# Altium footprint library TerminalBlock_4Ucon.PcbLib: 28 footprints (part 2 of 2)
Each footprint in its own frame and in the unit in brackets; x right, y up, seen from the top. Pads: shape width x height; smd on the part's side, far side on the other; paste and mask are expansions set on the pad; w line width, h text height; cw(c..) or ccw(c..) is an arc to the next point about the centre after c.
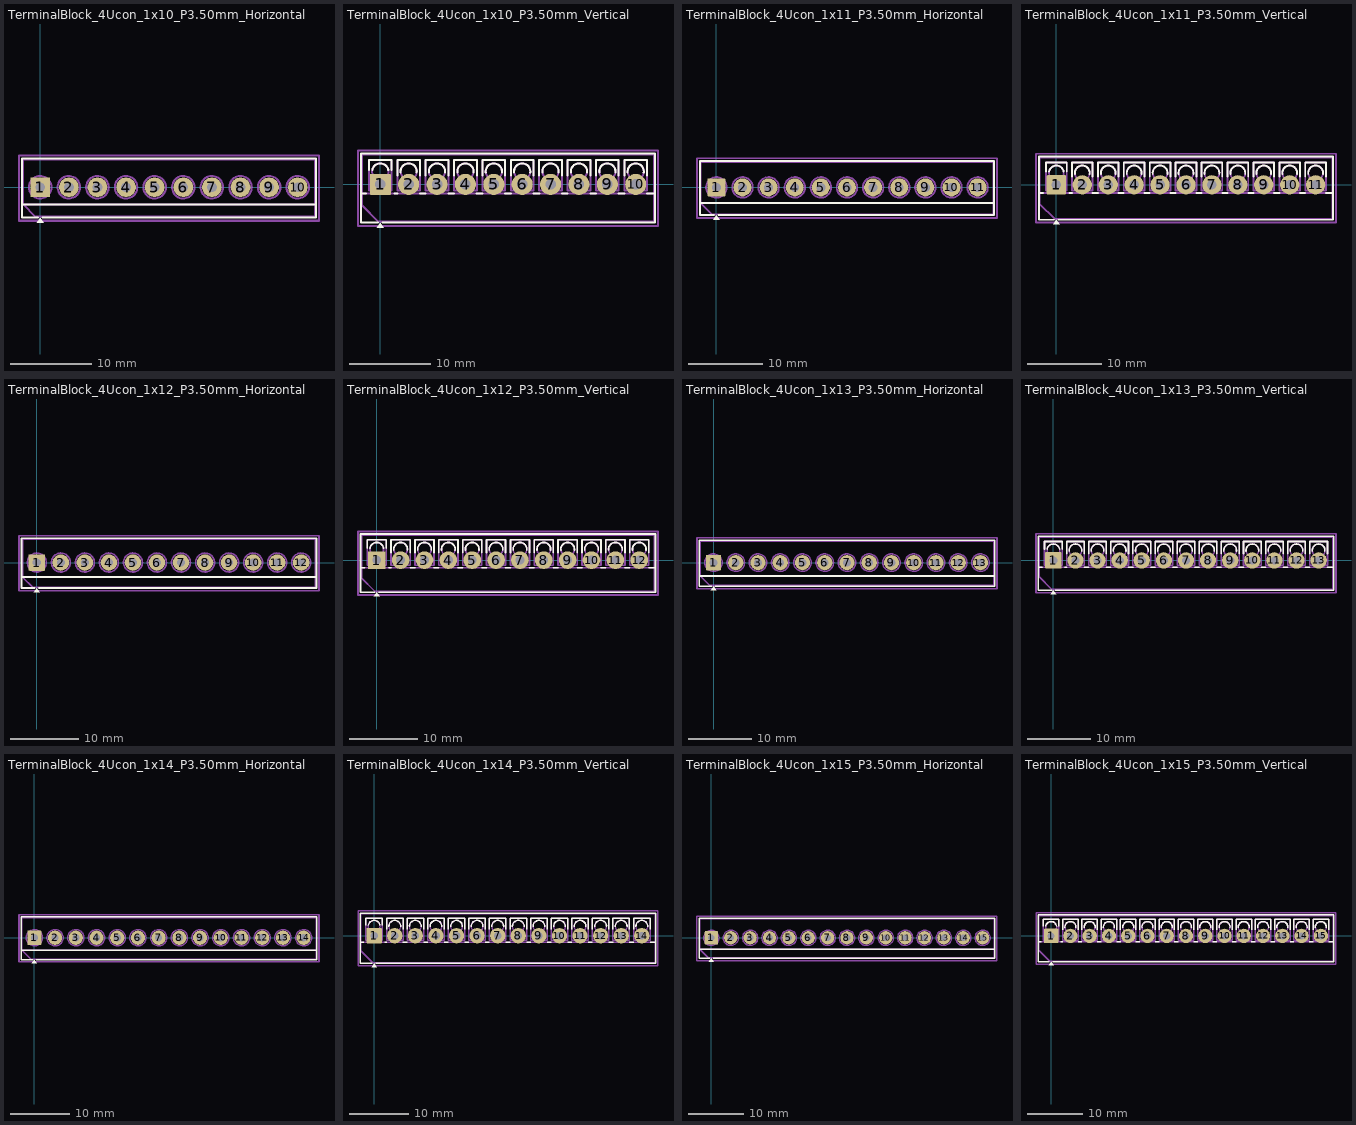
[diagram p1: the footprints below, top view; thin cyan lines are the x and y axes]

## TerminalBlock_4Ucon_1x10_P3.50mm_Horizontal [mm]
pads (10):
  rrect10% 2.4x2.4 hole 1.2: 1(0,0)
  round 2.4 hole 1.2: 2(3.5,0) 3(7,0) 4(10.5,0) 5(14,0) 6(17.5,0) 7(21,0) 8(24.5,0) 9(28,0) 10(31.5,0)
F.SilkS:
  region: 0.44,-4.33 -0.44,-4.33 0,-3.72
  lines w0.254: -2.22,-2.1 33.72,-2.1 ; -0.3,-3.72 -2.22,-3.72 -2.22,3.52 33.72,3.52 33.72,-3.72 0.3,-3.72
F.Fab:
  circle w0.254: c0,0 r1.375
  circle w0.254: c3.5,0 r1.375
  circle w0.254: c7,0 r1.375
  circle w0.254: c10.5,0 r1.375
  circle w0.254: c14,0 r1.375
  circle w0.254: c17.5,0 r1.375
  circle w0.254: c21,0 r1.375
  circle w0.254: c24.5,0 r1.375
  circle w0.254: c28,0 r1.375
  circle w0.254: c31.5,0 r1.375
  lines w0.254: -1.031,0 1.031,0 ; 0,-1.031 0,1.031 ; 2.469,0 4.531,0 ; 3.5,-1.031 3.5,1.031 ; 5.969,0 8.031,0 ; 7,-1.031 7,1.031 ; 9.469,0 11.531,0 ; 10.5,-1.031 10.5,1.031 ; 12.969,0 15.031,0 ; 14,-1.031 14,1.031 ; 16.469,0 18.531,0 ; 17.5,-1.031 17.5,1.031 ; 19.969,0 22.031,0 ; 21,-1.031 21,1.031 ; 23.469,0 25.531,0 ; 24.5,-1.031 24.5,1.031 ; 26.969,0 29.031,0 ; 28,-1.031 28,1.031 ; 30.469,0 32.531,0 ; 31.5,-1.031 31.5,1.031 ; 33.6,-2.1 -2.1,-2.1 ; -2.1,-2.1 -2.1,3.4 33.6,3.4 33.6,-3.6 -0.6,-3.6 -2.1,-2.1
  text "'.Designator'" at 11.703,-3.74 h1
F.CrtYd:
  lines w0.254: -2.6,-4.1 -2.6,3.9 34.1,3.9 34.1,-4.1 -2.6,-4.1

## TerminalBlock_4Ucon_1x10_P3.50mm_Vertical [mm]
pads (10):
  rrect10% 2.6x2.6 hole 1.3: 1(0,0)
  round 2.6 hole 1.3: 2(3.5,0) 3(7,0) 4(10.5,0) 5(14,0) 6(17.5,0) 7(21,0) 8(24.5,0) 9(28,0) 10(31.5,0)
F.SilkS:
  region: 0.44,-5.33 -0.44,-5.33 0,-4.72
  lines w0.254: -2.37,-1.1 -1.78,-1.1 ; -1.4,1.78 -1.4,3 1.4,3 1.4,1.78 ; -0.984,1.78 cw(c0,1.6) 0.984,1.78 ; -0.3,-4.72 -2.37,-4.72 -2.37,3.82 33.87,3.82 33.87,-4.72 0.3,-4.72 ; 1.78,-1.1 2.101,-1.1 ; 2.1,1.099 2.1,3 4.9,3 4.9,1.099 ; 2.508,1.478 cw(c3.5,1.6) 4.492,1.478 ; 4.899,-1.1 5.601,-1.1 ; 5.6,1.099 5.6,3 8.4,3 8.4,1.099 ; 6.008,1.478 cw(c7,1.6) 7.992,1.478 ; 8.399,-1.1 9.101,-1.1 ; 9.1,1.099 9.1,3 11.9,3 11.9,1.099 ; 9.508,1.478 cw(c10.5,1.6) 11.492,1.478 ; 11.899,-1.1 12.601,-1.1 ; 12.6,1.099 12.6,3 15.4,3 15.4,1.099 ; 13.008,1.478 cw(c14,1.6) 14.992,1.478 ; 15.399,-1.1 16.101,-1.1 ; 16.1,1.099 16.1,3 18.9,3 18.9,1.099 ; 16.508,1.478 cw(c17.5,1.6) 18.492,1.478 ; 18.899,-1.1 19.601,-1.1 ; 19.6,1.099 19.6,3 22.4,3 22.4,1.099 ; 20.008,1.478 cw(c21,1.6) 21.992,1.478 ; 22.399,-1.1 23.101,-1.1 ; 23.1,1.099 23.1,3 25.9,3 25.9,1.099 ; 23.508,1.478 cw(c24.5,1.6) 25.492,1.478 ; 25.899,-1.1 26.601,-1.1 ; 26.6,1.099 26.6,3 29.4,3 29.4,1.099 ; 27.008,1.478 cw(c28,1.6) 28.992,1.478 ; 29.399,-1.1 30.101,-1.1 ; 30.1,1.099 30.1,3 32.9,3 32.9,1.099 ; 30.508,1.478 cw(c31.5,1.6) 32.492,1.478 ; 32.899,-1.1 33.87,-1.1
F.Fab:
  circle w0.254: c0,1.6 r1
  circle w0.254: c3.5,1.6 r1
  circle w0.254: c7,1.6 r1
  circle w0.254: c10.5,1.6 r1
  circle w0.254: c14,1.6 r1
  circle w0.254: c17.5,1.6 r1
  circle w0.254: c21,1.6 r1
  circle w0.254: c24.5,1.6 r1
  circle w0.254: c28,1.6 r1
  circle w0.254: c31.5,1.6 r1
  lines w0.254: -2.25,-1.1 33.75,-1.1 ; -2.25,-2.6 -2.25,3.7 33.75,3.7 33.75,-4.6 -0.25,-4.6 -2.25,-2.6 ; -1.4,-0.75 -1.4,3 1.4,3 1.4,-0.75 -1.4,-0.75 ; 2.1,-0.75 2.1,3 4.9,3 4.9,-0.75 2.1,-0.75 ; 5.6,-0.75 5.6,3 8.4,3 8.4,-0.75 5.6,-0.75 ; 9.1,-0.75 9.1,3 11.9,3 11.9,-0.75 9.1,-0.75 ; 12.6,-0.75 12.6,3 15.4,3 15.4,-0.75 12.6,-0.75 ; 16.101,-0.75 16.101,3 18.9,3 18.9,-0.75 16.101,-0.75 ; 19.6,-0.75 19.6,3 22.4,3 22.4,-0.75 19.6,-0.75 ; 23.1,-0.75 23.1,3 25.9,3 25.9,-0.75 23.1,-0.75 ; 26.6,-0.75 26.6,3 29.4,3 29.4,-0.75 26.6,-0.75 ; 30.1,-0.75 30.1,3 32.9,3 32.9,-0.75 30.1,-0.75
  text "'.Designator'" at 11.703,-4.29 h1
F.CrtYd:
  lines w0.254: -2.75,-5.11 -2.75,4.2 34.25,4.2 34.25,-5.11 -2.75,-5.11

## TerminalBlock_4Ucon_1x11_P3.50mm_Horizontal [mm]
pads (11):
  rrect10% 2.4x2.4 hole 1.2: 1(0,0)
  round 2.4 hole 1.2: 2(3.5,0) 3(7,0) 4(10.5,0) 5(14,0) 6(17.5,0) 7(21,0) 8(24.5,0) 9(28,0) 10(31.5,0) 11(35,0)
F.SilkS:
  region: 0.44,-4.33 -0.44,-4.33 0,-3.72
  lines w0.254: -2.22,-2.1 37.22,-2.1 ; -0.3,-3.72 -2.22,-3.72 -2.22,3.52 37.22,3.52 37.22,-3.72 0.3,-3.72
F.Fab:
  circle w0.254: c0,0 r1.375
  circle w0.254: c3.5,0 r1.375
  circle w0.254: c7,0 r1.375
  circle w0.254: c10.5,0 r1.375
  circle w0.254: c14,0 r1.375
  circle w0.254: c17.5,0 r1.375
  circle w0.254: c21,0 r1.375
  circle w0.254: c24.5,0 r1.375
  circle w0.254: c28,0 r1.375
  circle w0.254: c31.5,0 r1.375
  circle w0.254: c35,0 r1.375
  lines w0.254: -1.031,0 1.031,0 ; 0,-1.031 0,1.031 ; 2.469,0 4.531,0 ; 3.5,-1.031 3.5,1.031 ; 5.969,0 8.031,0 ; 7,-1.031 7,1.031 ; 9.469,0 11.531,0 ; 10.5,-1.031 10.5,1.031 ; 12.969,0 15.031,0 ; 14,-1.031 14,1.031 ; 16.469,0 18.531,0 ; 17.5,-1.031 17.5,1.031 ; 19.969,0 22.031,0 ; 21,-1.031 21,1.031 ; 23.469,0 25.531,0 ; 24.5,-1.031 24.5,1.031 ; 26.969,0 29.031,0 ; 28,-1.031 28,1.031 ; 30.469,0 32.531,0 ; 31.5,-1.031 31.5,1.031 ; 33.969,0 36.031,0 ; 35,-1.031 35,1.031 ; 37.1,-2.1 -2.1,-2.1 ; -2.1,-2.1 -2.1,3.4 37.1,3.4 37.1,-3.6 -0.6,-3.6 -2.1,-2.1
  text "'.Designator'" at 13.453,-3.74 h1
F.CrtYd:
  lines w0.254: -2.6,-4.1 -2.6,3.9 37.6,3.9 37.6,-4.1 -2.6,-4.1

## TerminalBlock_4Ucon_1x11_P3.50mm_Vertical [mm]
pads (11):
  rrect10% 2.6x2.6 hole 1.3: 1(0,0)
  round 2.6 hole 1.3: 2(3.5,0) 3(7,0) 4(10.5,0) 5(14,0) 6(17.5,0) 7(21,0) 8(24.5,0) 9(28,0) 10(31.5,0) 11(35,0)
F.SilkS:
  region: 0.44,-5.33 -0.44,-5.33 0,-4.72
  lines w0.254: -2.37,-1.1 -1.78,-1.1 ; -1.4,1.78 -1.4,3 1.4,3 1.4,1.78 ; -0.984,1.78 cw(c0,1.6) 0.984,1.78 ; -0.3,-4.72 -2.37,-4.72 -2.37,3.82 37.37,3.82 37.37,-4.72 0.3,-4.72 ; 1.78,-1.1 2.101,-1.1 ; 2.1,1.099 2.1,3 4.9,3 4.9,1.099 ; 2.508,1.478 cw(c3.5,1.6) 4.492,1.478 ; 4.899,-1.1 5.601,-1.1 ; 5.6,1.099 5.6,3 8.4,3 8.4,1.099 ; 6.008,1.478 cw(c7,1.6) 7.992,1.478 ; 8.399,-1.1 9.101,-1.1 ; 9.1,1.099 9.1,3 11.9,3 11.9,1.099 ; 9.508,1.478 cw(c10.5,1.6) 11.492,1.478 ; 11.899,-1.1 12.601,-1.1 ; 12.6,1.099 12.6,3 15.4,3 15.4,1.099 ; 13.008,1.478 cw(c14,1.6) 14.992,1.478 ; 15.399,-1.1 16.101,-1.1 ; 16.1,1.099 16.1,3 18.9,3 18.9,1.099 ; 16.508,1.478 cw(c17.5,1.6) 18.492,1.478 ; 18.899,-1.1 19.601,-1.1 ; 19.6,1.099 19.6,3 22.4,3 22.4,1.099 ; 20.008,1.478 cw(c21,1.6) 21.992,1.478 ; 22.399,-1.1 23.101,-1.1 ; 23.1,1.099 23.1,3 25.9,3 25.9,1.099 ; 23.508,1.478 cw(c24.5,1.6) 25.492,1.478 ; 25.899,-1.1 26.601,-1.1 ; 26.6,1.099 26.6,3 29.4,3 29.4,1.099 ; 27.008,1.478 cw(c28,1.6) 28.992,1.478 ; 29.399,-1.1 30.101,-1.1 ; 30.1,1.099 30.1,3 32.9,3 32.9,1.099 ; 30.508,1.478 cw(c31.5,1.6) 32.492,1.478 ; 32.899,-1.1 33.601,-1.1 ; 33.6,1.099 33.6,3 36.4,3 36.4,1.099 ; 34.008,1.478 cw(c35,1.6) 35.992,1.478 ; 36.399,-1.1 37.37,-1.1
F.Fab:
  circle w0.254: c0,1.6 r1
  circle w0.254: c3.5,1.6 r1
  circle w0.254: c7,1.6 r1
  circle w0.254: c10.5,1.6 r1
  circle w0.254: c14,1.6 r1
  circle w0.254: c17.5,1.6 r1
  circle w0.254: c21,1.6 r1
  circle w0.254: c24.5,1.6 r1
  circle w0.254: c28,1.6 r1
  circle w0.254: c31.5,1.6 r1
  circle w0.254: c35,1.6 r1
  lines w0.254: -2.25,-1.1 37.25,-1.1 ; -2.25,-2.6 -2.25,3.7 37.25,3.7 37.25,-4.6 -0.25,-4.6 -2.25,-2.6 ; -1.4,-0.75 -1.4,3 1.4,3 1.4,-0.75 -1.4,-0.75 ; 2.1,-0.75 2.1,3 4.9,3 4.9,-0.75 2.1,-0.75 ; 5.6,-0.75 5.6,3 8.4,3 8.4,-0.75 5.6,-0.75 ; 9.1,-0.75 9.1,3 11.9,3 11.9,-0.75 9.1,-0.75 ; 12.6,-0.75 12.6,3 15.4,3 15.4,-0.75 12.6,-0.75 ; 16.101,-0.75 16.101,3 18.9,3 18.9,-0.75 16.101,-0.75 ; 19.6,-0.75 19.6,3 22.4,3 22.4,-0.75 19.6,-0.75 ; 23.1,-0.75 23.1,3 25.9,3 25.9,-0.75 23.1,-0.75 ; 26.6,-0.75 26.6,3 29.4,3 29.4,-0.75 26.6,-0.75 ; 30.1,-0.75 30.1,3 32.9,3 32.9,-0.75 30.1,-0.75 ; 33.6,-0.75 33.6,3 36.4,3 36.4,-0.75 33.6,-0.75
  text "'.Designator'" at 13.453,-4.29 h1
F.CrtYd:
  lines w0.254: -2.75,-5.11 -2.75,4.2 37.75,4.2 37.75,-5.11 -2.75,-5.11

## TerminalBlock_4Ucon_1x12_P3.50mm_Horizontal [mm]
pads (12):
  rrect10% 2.4x2.4 hole 1.2: 1(0,0)
  round 2.4 hole 1.2: 2(3.5,0) 3(7,0) 4(10.5,0) 5(14,0) 6(17.5,0) 7(21,0) 8(24.5,0) 9(28,0) 10(31.5,0) 11(35,0) 12(38.5,0)
F.SilkS:
  region: 0.44,-4.33 -0.44,-4.33 0,-3.72
  lines w0.254: -2.22,-2.1 40.72,-2.1 ; -0.3,-3.72 -2.22,-3.72 -2.22,3.52 40.72,3.52 40.72,-3.72 0.3,-3.72
F.Fab:
  circle w0.254: c0,0 r1.375
  circle w0.254: c3.5,0 r1.375
  circle w0.254: c7,0 r1.375
  circle w0.254: c10.5,0 r1.375
  circle w0.254: c14,0 r1.375
  circle w0.254: c17.5,0 r1.375
  circle w0.254: c21,0 r1.375
  circle w0.254: c24.5,0 r1.375
  circle w0.254: c28,0 r1.375
  circle w0.254: c31.5,0 r1.375
  circle w0.254: c35,0 r1.375
  circle w0.254: c38.5,0 r1.375
  lines w0.254: -1.031,0 1.031,0 ; 0,-1.031 0,1.031 ; 2.469,0 4.531,0 ; 3.5,-1.031 3.5,1.031 ; 5.969,0 8.031,0 ; 7,-1.031 7,1.031 ; 9.469,0 11.531,0 ; 10.5,-1.031 10.5,1.031 ; 12.969,0 15.031,0 ; 14,-1.031 14,1.031 ; 16.469,0 18.531,0 ; 17.5,-1.031 17.5,1.031 ; 19.969,0 22.031,0 ; 21,-1.031 21,1.031 ; 23.469,0 25.531,0 ; 24.5,-1.031 24.5,1.031 ; 26.969,0 29.031,0 ; 28,-1.031 28,1.031 ; 30.469,0 32.531,0 ; 31.5,-1.031 31.5,1.031 ; 33.969,0 36.031,0 ; 35,-1.031 35,1.031 ; 37.469,0 39.531,0 ; 38.5,-1.031 38.5,1.031 ; 40.6,-2.1 -2.1,-2.1 ; -2.1,-2.1 -2.1,3.4 40.6,3.4 40.6,-3.6 -0.6,-3.6 -2.1,-2.1
  text "'.Designator'" at 15.203,-3.74 h1
F.CrtYd:
  lines w0.254: -2.6,-4.1 -2.6,3.9 41.1,3.9 41.1,-4.1 -2.6,-4.1

## TerminalBlock_4Ucon_1x12_P3.50mm_Vertical [mm]
pads (12):
  rrect10% 2.6x2.6 hole 1.3: 1(0,0)
  round 2.6 hole 1.3: 2(3.5,0) 3(7,0) 4(10.5,0) 5(14,0) 6(17.5,0) 7(21,0) 8(24.5,0) 9(28,0) 10(31.5,0) 11(35,0) 12(38.5,0)
F.SilkS:
  region: 0.44,-5.33 -0.44,-5.33 0,-4.72
  lines w0.254: -2.37,-1.1 -1.78,-1.1 ; -1.4,1.78 -1.4,3 1.4,3 1.4,1.78 ; -0.984,1.78 cw(c0,1.6) 0.984,1.78 ; -0.3,-4.72 -2.37,-4.72 -2.37,3.82 40.87,3.82 40.87,-4.72 0.3,-4.72 ; 1.78,-1.1 2.101,-1.1 ; 2.1,1.099 2.1,3 4.9,3 4.9,1.099 ; 2.508,1.478 cw(c3.5,1.6) 4.492,1.478 ; 4.899,-1.1 5.601,-1.1 ; 5.6,1.099 5.6,3 8.4,3 8.4,1.099 ; 6.008,1.478 cw(c7,1.6) 7.992,1.478 ; 8.399,-1.1 9.101,-1.1 ; 9.1,1.099 9.1,3 11.9,3 11.9,1.099 ; 9.508,1.478 cw(c10.5,1.6) 11.492,1.478 ; 11.899,-1.1 12.601,-1.1 ; 12.6,1.099 12.6,3 15.4,3 15.4,1.099 ; 13.008,1.478 cw(c14,1.6) 14.992,1.478 ; 15.399,-1.1 16.101,-1.1 ; 16.1,1.099 16.1,3 18.9,3 18.9,1.099 ; 16.508,1.478 cw(c17.5,1.6) 18.492,1.478 ; 18.899,-1.1 19.601,-1.1 ; 19.6,1.099 19.6,3 22.4,3 22.4,1.099 ; 20.008,1.478 cw(c21,1.6) 21.992,1.478 ; 22.399,-1.1 23.101,-1.1 ; 23.1,1.099 23.1,3 25.9,3 25.9,1.099 ; 23.508,1.478 cw(c24.5,1.6) 25.492,1.478 ; 25.899,-1.1 26.601,-1.1 ; 26.6,1.099 26.6,3 29.4,3 29.4,1.099 ; 27.008,1.478 cw(c28,1.6) 28.992,1.478 ; 29.399,-1.1 30.101,-1.1 ; 30.1,1.099 30.1,3 32.9,3 32.9,1.099 ; 30.508,1.478 cw(c31.5,1.6) 32.492,1.478 ; 32.899,-1.1 33.601,-1.1 ; 33.6,1.099 33.6,3 36.4,3 36.4,1.099 ; 34.008,1.478 cw(c35,1.6) 35.992,1.478 ; 36.399,-1.1 37.101,-1.1 ; 37.1,1.099 37.1,3 39.9,3 39.9,1.099 ; 37.508,1.478 cw(c38.5,1.6) 39.492,1.478 ; 39.899,-1.1 40.87,-1.1
F.Fab:
  circle w0.254: c0,1.6 r1
  circle w0.254: c3.5,1.6 r1
  circle w0.254: c7,1.6 r1
  circle w0.254: c10.5,1.6 r1
  circle w0.254: c14,1.6 r1
  circle w0.254: c17.5,1.6 r1
  circle w0.254: c21,1.6 r1
  circle w0.254: c24.5,1.6 r1
  circle w0.254: c28,1.6 r1
  circle w0.254: c31.5,1.6 r1
  circle w0.254: c35,1.6 r1
  circle w0.254: c38.5,1.6 r1
  lines w0.254: -2.25,-1.1 40.75,-1.1 ; -2.25,-2.6 -2.25,3.7 40.75,3.7 40.75,-4.6 -0.25,-4.6 -2.25,-2.6 ; -1.4,-0.75 -1.4,3 1.4,3 1.4,-0.75 -1.4,-0.75 ; 2.1,-0.75 2.1,3 4.9,3 4.9,-0.75 2.1,-0.75 ; 5.6,-0.75 5.6,3 8.4,3 8.4,-0.75 5.6,-0.75 ; 9.1,-0.75 9.1,3 11.9,3 11.9,-0.75 9.1,-0.75 ; 12.6,-0.75 12.6,3 15.4,3 15.4,-0.75 12.6,-0.75 ; 16.101,-0.75 16.101,3 18.9,3 18.9,-0.75 16.101,-0.75 ; 19.6,-0.75 19.6,3 22.4,3 22.4,-0.75 19.6,-0.75 ; 23.1,-0.75 23.1,3 25.9,3 25.9,-0.75 23.1,-0.75 ; 26.6,-0.75 26.6,3 29.4,3 29.4,-0.75 26.6,-0.75 ; 30.1,-0.75 30.1,3 32.9,3 32.9,-0.75 30.1,-0.75 ; 33.6,-0.75 33.6,3 36.4,3 36.4,-0.75 33.6,-0.75 ; 37.1,-0.75 37.1,3 39.9,3 39.9,-0.75 37.1,-0.75
  text "'.Designator'" at 15.203,-4.29 h1
F.CrtYd:
  lines w0.254: -2.75,-5.11 -2.75,4.2 41.25,4.2 41.25,-5.11 -2.75,-5.11

## TerminalBlock_4Ucon_1x13_P3.50mm_Horizontal [mm]
pads (13):
  rrect10% 2.4x2.4 hole 1.2: 1(0,0)
  round 2.4 hole 1.2: 2(3.5,0) 3(7,0) 4(10.5,0) 5(14,0) 6(17.5,0) 7(21,0) 8(24.5,0) 9(28,0) 10(31.5,0) 11(35,0) 12(38.5,0) 13(42,0)
F.SilkS:
  region: 0.44,-4.33 -0.44,-4.33 0,-3.72
  lines w0.254: -2.22,-2.1 44.22,-2.1 ; -0.3,-3.72 -2.22,-3.72 -2.22,3.52 44.22,3.52 44.22,-3.72 0.3,-3.72
F.Fab:
  circle w0.254: c0,0 r1.375
  circle w0.254: c3.5,0 r1.375
  circle w0.254: c7,0 r1.375
  circle w0.254: c10.5,0 r1.375
  circle w0.254: c14,0 r1.375
  circle w0.254: c17.5,0 r1.375
  circle w0.254: c21,0 r1.375
  circle w0.254: c24.5,0 r1.375
  circle w0.254: c28,0 r1.375
  circle w0.254: c31.5,0 r1.375
  circle w0.254: c35,0 r1.375
  circle w0.254: c38.5,0 r1.375
  circle w0.254: c42,0 r1.375
  lines w0.254: -1.031,0 1.031,0 ; 0,-1.031 0,1.031 ; 2.469,0 4.531,0 ; 3.5,-1.031 3.5,1.031 ; 5.969,0 8.031,0 ; 7,-1.031 7,1.031 ; 9.469,0 11.531,0 ; 10.5,-1.031 10.5,1.031 ; 12.969,0 15.031,0 ; 14,-1.031 14,1.031 ; 16.469,0 18.531,0 ; 17.5,-1.031 17.5,1.031 ; 19.969,0 22.031,0 ; 21,-1.031 21,1.031 ; 23.469,0 25.531,0 ; 24.5,-1.031 24.5,1.031 ; 26.969,0 29.031,0 ; 28,-1.031 28,1.031 ; 30.469,0 32.531,0 ; 31.5,-1.031 31.5,1.031 ; 33.969,0 36.031,0 ; 35,-1.031 35,1.031 ; 37.469,0 39.531,0 ; 38.5,-1.031 38.5,1.031 ; 40.969,0 43.031,0 ; 42,-1.031 42,1.031 ; 44.1,-2.1 -2.1,-2.1 ; -2.1,-2.1 -2.1,3.4 44.1,3.4 44.1,-3.6 -0.6,-3.6 -2.1,-2.1
  text "'.Designator'" at 16.953,-3.74 h1
F.CrtYd:
  lines w0.254: -2.6,-4.1 -2.6,3.9 44.6,3.9 44.6,-4.1 -2.6,-4.1

## TerminalBlock_4Ucon_1x13_P3.50mm_Vertical [mm]
pads (13):
  rrect10% 2.6x2.6 hole 1.3: 1(0,0)
  round 2.6 hole 1.3: 2(3.5,0) 3(7,0) 4(10.5,0) 5(14,0) 6(17.5,0) 7(21,0) 8(24.5,0) 9(28,0) 10(31.5,0) 11(35,0) 12(38.5,0) 13(42,0)
F.SilkS:
  region: 0.44,-5.33 -0.44,-5.33 0,-4.72
  lines w0.254: -2.37,-1.1 -1.78,-1.1 ; -1.4,1.78 -1.4,3 1.4,3 1.4,1.78 ; -0.984,1.78 cw(c0,1.6) 0.984,1.78 ; -0.3,-4.72 -2.37,-4.72 -2.37,3.82 44.37,3.82 44.37,-4.72 0.3,-4.72 ; 1.78,-1.1 2.101,-1.1 ; 2.1,1.099 2.1,3 4.9,3 4.9,1.099 ; 2.508,1.478 cw(c3.5,1.6) 4.492,1.478 ; 4.899,-1.1 5.601,-1.1 ; 5.6,1.099 5.6,3 8.4,3 8.4,1.099 ; 6.008,1.478 cw(c7,1.6) 7.992,1.478 ; 8.399,-1.1 9.101,-1.1 ; 9.1,1.099 9.1,3 11.9,3 11.9,1.099 ; 9.508,1.478 cw(c10.5,1.6) 11.492,1.478 ; 11.899,-1.1 12.601,-1.1 ; 12.6,1.099 12.6,3 15.4,3 15.4,1.099 ; 13.008,1.478 cw(c14,1.6) 14.992,1.478 ; 15.399,-1.1 16.101,-1.1 ; 16.1,1.099 16.1,3 18.9,3 18.9,1.099 ; 16.508,1.478 cw(c17.5,1.6) 18.492,1.478 ; 18.899,-1.1 19.601,-1.1 ; 19.6,1.099 19.6,3 22.4,3 22.4,1.099 ; 20.008,1.478 cw(c21,1.6) 21.992,1.478 ; 22.399,-1.1 23.101,-1.1 ; 23.1,1.099 23.1,3 25.9,3 25.9,1.099 ; 23.508,1.478 cw(c24.5,1.6) 25.492,1.478 ; 25.899,-1.1 26.601,-1.1 ; 26.6,1.099 26.6,3 29.4,3 29.4,1.099 ; 27.008,1.478 cw(c28,1.6) 28.992,1.478 ; 29.399,-1.1 30.101,-1.1 ; 30.1,1.099 30.1,3 32.9,3 32.9,1.099 ; 30.508,1.478 cw(c31.5,1.6) 32.492,1.478 ; 32.899,-1.1 33.601,-1.1 ; 33.6,1.099 33.6,3 36.4,3 36.4,1.099 ; 34.008,1.478 cw(c35,1.6) 35.992,1.478 ; 36.399,-1.1 37.101,-1.1 ; 37.1,1.099 37.1,3 39.9,3 39.9,1.099 ; 37.508,1.478 cw(c38.5,1.6) 39.492,1.478 ; 39.899,-1.1 40.601,-1.1 ; 40.6,1.099 40.6,3 43.4,3 43.4,1.099 ; 41.008,1.478 cw(c42,1.6) 42.992,1.478 ; 43.399,-1.1 44.37,-1.1
F.Fab:
  circle w0.254: c0,1.6 r1
  circle w0.254: c3.5,1.6 r1
  circle w0.254: c7,1.6 r1
  circle w0.254: c10.5,1.6 r1
  circle w0.254: c14,1.6 r1
  circle w0.254: c17.5,1.6 r1
  circle w0.254: c21,1.6 r1
  circle w0.254: c24.5,1.6 r1
  circle w0.254: c28,1.6 r1
  circle w0.254: c31.5,1.6 r1
  circle w0.254: c35,1.6 r1
  circle w0.254: c38.5,1.6 r1
  circle w0.254: c42,1.6 r1
  lines w0.254: -2.25,-1.1 44.25,-1.1 ; -2.25,-2.6 -2.25,3.7 44.25,3.7 44.25,-4.6 -0.25,-4.6 -2.25,-2.6 ; -1.4,-0.75 -1.4,3 1.4,3 1.4,-0.75 -1.4,-0.75 ; 2.1,-0.75 2.1,3 4.9,3 4.9,-0.75 2.1,-0.75 ; 5.6,-0.75 5.6,3 8.4,3 8.4,-0.75 5.6,-0.75 ; 9.1,-0.75 9.1,3 11.9,3 11.9,-0.75 9.1,-0.75 ; 12.6,-0.75 12.6,3 15.4,3 15.4,-0.75 12.6,-0.75 ; 16.101,-0.75 16.101,3 18.9,3 18.9,-0.75 16.101,-0.75 ; 19.6,-0.75 19.6,3 22.4,3 22.4,-0.75 19.6,-0.75 ; 23.1,-0.75 23.1,3 25.9,3 25.9,-0.75 23.1,-0.75 ; 26.6,-0.75 26.6,3 29.4,3 29.4,-0.75 26.6,-0.75 ; 30.1,-0.75 30.1,3 32.9,3 32.9,-0.75 30.1,-0.75 ; 33.6,-0.75 33.6,3 36.4,3 36.4,-0.75 33.6,-0.75 ; 37.1,-0.75 37.1,3 39.9,3 39.9,-0.75 37.1,-0.75 ; 40.6,-0.75 40.6,3 43.4,3 43.4,-0.75 40.6,-0.75
  text "'.Designator'" at 16.953,-4.29 h1
F.CrtYd:
  lines w0.254: -2.75,-5.11 -2.75,4.2 44.75,4.2 44.75,-5.11 -2.75,-5.11

## TerminalBlock_4Ucon_1x14_P3.50mm_Horizontal [mm]
pads (14):
  rrect10% 2.4x2.4 hole 1.2: 1(0,0)
  round 2.4 hole 1.2: 2(3.5,0) 3(7,0) 4(10.5,0) 5(14,0) 6(17.5,0) 7(21,0) 8(24.5,0) 9(28,0) 10(31.5,0) 11(35,0) 12(38.5,0) 13(42,0) 14(45.5,0)
F.SilkS:
  region: 0.44,-4.33 -0.44,-4.33 0,-3.72
  lines w0.254: -2.22,-2.1 47.72,-2.1 ; -0.3,-3.72 -2.22,-3.72 -2.22,3.52 47.72,3.52 47.72,-3.72 0.3,-3.72
F.Fab:
  circle w0.254: c0,0 r1.375
  circle w0.254: c3.5,0 r1.375
  circle w0.254: c7,0 r1.375
  circle w0.254: c10.5,0 r1.375
  circle w0.254: c14,0 r1.375
  circle w0.254: c17.5,0 r1.375
  circle w0.254: c21,0 r1.375
  circle w0.254: c24.5,0 r1.375
  circle w0.254: c28,0 r1.375
  circle w0.254: c31.5,0 r1.375
  circle w0.254: c35,0 r1.375
  circle w0.254: c38.5,0 r1.375
  circle w0.254: c42,0 r1.375
  circle w0.254: c45.5,0 r1.375
  lines w0.254: -1.031,0 1.031,0 ; 0,-1.031 0,1.031 ; 2.469,0 4.531,0 ; 3.5,-1.031 3.5,1.031 ; 5.969,0 8.031,0 ; 7,-1.031 7,1.031 ; 9.469,0 11.531,0 ; 10.5,-1.031 10.5,1.031 ; 12.969,0 15.031,0 ; 14,-1.031 14,1.031 ; 16.469,0 18.531,0 ; 17.5,-1.031 17.5,1.031 ; 19.969,0 22.031,0 ; 21,-1.031 21,1.031 ; 23.469,0 25.531,0 ; 24.5,-1.031 24.5,1.031 ; 26.969,0 29.031,0 ; 28,-1.031 28,1.031 ; 30.469,0 32.531,0 ; 31.5,-1.031 31.5,1.031 ; 33.969,0 36.031,0 ; 35,-1.031 35,1.031 ; 37.469,0 39.531,0 ; 38.5,-1.031 38.5,1.031 ; 40.969,0 43.031,0 ; 42,-1.031 42,1.031 ; 44.469,0 46.531,0 ; 45.5,-1.031 45.5,1.031 ; 47.6,-2.1 -2.1,-2.1 ; -2.1,-2.1 -2.1,3.4 47.6,3.4 47.6,-3.6 -0.6,-3.6 -2.1,-2.1
  text "'.Designator'" at 18.703,-3.74 h1
F.CrtYd:
  lines w0.254: -2.6,-4.1 -2.6,3.9 48.1,3.9 48.1,-4.1 -2.6,-4.1

## TerminalBlock_4Ucon_1x14_P3.50mm_Vertical [mm]
pads (14):
  rrect10% 2.6x2.6 hole 1.3: 1(0,0)
  round 2.6 hole 1.3: 2(3.5,0) 3(7,0) 4(10.5,0) 5(14,0) 6(17.5,0) 7(21,0) 8(24.5,0) 9(28,0) 10(31.5,0) 11(35,0) 12(38.5,0) 13(42,0) 14(45.5,0)
F.SilkS:
  region: 0.44,-5.33 -0.44,-5.33 0,-4.72
  lines w0.254: -2.37,-1.1 -1.78,-1.1 ; -1.4,1.78 -1.4,3 1.4,3 1.4,1.78 ; -0.984,1.78 cw(c0,1.6) 0.984,1.78 ; -0.3,-4.72 -2.37,-4.72 -2.37,3.82 47.87,3.82 47.87,-4.72 0.3,-4.72 ; 1.78,-1.1 2.101,-1.1 ; 2.1,1.099 2.1,3 4.9,3 4.9,1.099 ; 2.508,1.478 cw(c3.5,1.6) 4.492,1.478 ; 4.899,-1.1 5.601,-1.1 ; 5.6,1.099 5.6,3 8.4,3 8.4,1.099 ; 6.008,1.478 cw(c7,1.6) 7.992,1.478 ; 8.399,-1.1 9.101,-1.1 ; 9.1,1.099 9.1,3 11.9,3 11.9,1.099 ; 9.508,1.478 cw(c10.5,1.6) 11.492,1.478 ; 11.899,-1.1 12.601,-1.1 ; 12.6,1.099 12.6,3 15.4,3 15.4,1.099 ; 13.008,1.478 cw(c14,1.6) 14.992,1.478 ; 15.399,-1.1 16.101,-1.1 ; 16.1,1.099 16.1,3 18.9,3 18.9,1.099 ; 16.508,1.478 cw(c17.5,1.6) 18.492,1.478 ; 18.899,-1.1 19.601,-1.1 ; 19.6,1.099 19.6,3 22.4,3 22.4,1.099 ; 20.008,1.478 cw(c21,1.6) 21.992,1.478 ; 22.399,-1.1 23.101,-1.1 ; 23.1,1.099 23.1,3 25.9,3 25.9,1.099 ; 23.508,1.478 cw(c24.5,1.6) 25.492,1.478 ; 25.899,-1.1 26.601,-1.1 ; 26.6,1.099 26.6,3 29.4,3 29.4,1.099 ; 27.008,1.478 cw(c28,1.6) 28.992,1.478 ; 29.399,-1.1 30.101,-1.1 ; 30.1,1.099 30.1,3 32.9,3 32.9,1.099 ; 30.508,1.478 cw(c31.5,1.6) 32.492,1.478 ; 32.899,-1.1 33.601,-1.1 ; 33.6,1.099 33.6,3 36.4,3 36.4,1.099 ; 34.008,1.478 cw(c35,1.6) 35.992,1.478 ; 36.399,-1.1 37.101,-1.1 ; 37.1,1.099 37.1,3 39.9,3 39.9,1.099 ; 37.508,1.478 cw(c38.5,1.6) 39.492,1.478 ; 39.899,-1.1 40.601,-1.1 ; 40.6,1.099 40.6,3 43.4,3 43.4,1.099 ; 41.008,1.478 cw(c42,1.6) 42.992,1.478 ; 43.399,-1.1 44.101,-1.1 ; 44.1,1.099 44.1,3 46.9,3 46.9,1.099 ; 44.508,1.478 cw(c45.5,1.6) 46.492,1.478 ; 46.899,-1.1 47.87,-1.1
F.Fab:
  circle w0.254: c0,1.6 r1
  circle w0.254: c3.5,1.6 r1
  circle w0.254: c7,1.6 r1
  circle w0.254: c10.5,1.6 r1
  circle w0.254: c14,1.6 r1
  circle w0.254: c17.5,1.6 r1
  circle w0.254: c21,1.6 r1
  circle w0.254: c24.5,1.6 r1
  circle w0.254: c28,1.6 r1
  circle w0.254: c31.5,1.6 r1
  circle w0.254: c35,1.6 r1
  circle w0.254: c38.5,1.6 r1
  circle w0.254: c42,1.6 r1
  circle w0.254: c45.5,1.6 r1
  lines w0.254: -2.25,-1.1 47.75,-1.1 ; -2.25,-2.6 -2.25,3.7 47.75,3.7 47.75,-4.6 -0.25,-4.6 -2.25,-2.6 ; -1.4,-0.75 -1.4,3 1.4,3 1.4,-0.75 -1.4,-0.75 ; 2.1,-0.75 2.1,3 4.9,3 4.9,-0.75 2.1,-0.75 ; 5.6,-0.75 5.6,3 8.4,3 8.4,-0.75 5.6,-0.75 ; 9.1,-0.75 9.1,3 11.9,3 11.9,-0.75 9.1,-0.75 ; 12.6,-0.75 12.6,3 15.4,3 15.4,-0.75 12.6,-0.75 ; 16.101,-0.75 16.101,3 18.9,3 18.9,-0.75 16.101,-0.75 ; 19.6,-0.75 19.6,3 22.4,3 22.4,-0.75 19.6,-0.75 ; 23.1,-0.75 23.1,3 25.9,3 25.9,-0.75 23.1,-0.75 ; 26.6,-0.75 26.6,3 29.4,3 29.4,-0.75 26.6,-0.75 ; 30.1,-0.75 30.1,3 32.9,3 32.9,-0.75 30.1,-0.75 ; 33.6,-0.75 33.6,3 36.4,3 36.4,-0.75 33.6,-0.75 ; 37.1,-0.75 37.1,3 39.9,3 39.9,-0.75 37.1,-0.75 ; 40.6,-0.75 40.6,3 43.4,3 43.4,-0.75 40.6,-0.75 ; 44.1,-0.75 44.1,3 46.9,3 46.9,-0.75 44.1,-0.75
  text "'.Designator'" at 18.703,-4.29 h1
F.CrtYd:
  lines w0.254: -2.75,-5.11 -2.75,4.2 48.25,4.2 48.25,-5.11 -2.75,-5.11

## TerminalBlock_4Ucon_1x15_P3.50mm_Horizontal [mm]
pads (15):
  rrect10% 2.4x2.4 hole 1.2: 1(0,0)
  round 2.4 hole 1.2: 2(3.5,0) 3(7,0) 4(10.5,0) 5(14,0) 6(17.5,0) 7(21,0) 8(24.5,0) 9(28,0) 10(31.5,0) 11(35,0) 12(38.5,0) 13(42,0) 14(45.5,0) 15(49,0)
F.SilkS:
  region: 0.44,-4.33 -0.44,-4.33 0,-3.72
  lines w0.254: -2.22,-2.1 51.22,-2.1 ; -0.3,-3.72 -2.22,-3.72 -2.22,3.52 51.22,3.52 51.22,-3.72 0.3,-3.72
F.Fab:
  circle w0.254: c0,0 r1.375
  circle w0.254: c3.5,0 r1.375
  circle w0.254: c7,0 r1.375
  circle w0.254: c10.5,0 r1.375
  circle w0.254: c14,0 r1.375
  circle w0.254: c17.5,0 r1.375
  circle w0.254: c21,0 r1.375
  circle w0.254: c24.5,0 r1.375
  circle w0.254: c28,0 r1.375
  circle w0.254: c31.5,0 r1.375
  circle w0.254: c35,0 r1.375
  circle w0.254: c38.5,0 r1.375
  circle w0.254: c42,0 r1.375
  circle w0.254: c45.5,0 r1.375
  circle w0.254: c49,0 r1.375
  lines w0.254: -1.031,0 1.031,0 ; 0,-1.031 0,1.031 ; 2.469,0 4.531,0 ; 3.5,-1.031 3.5,1.031 ; 5.969,0 8.031,0 ; 7,-1.031 7,1.031 ; 9.469,0 11.531,0 ; 10.5,-1.031 10.5,1.031 ; 12.969,0 15.031,0 ; 14,-1.031 14,1.031 ; 16.469,0 18.531,0 ; 17.5,-1.031 17.5,1.031 ; 19.969,0 22.031,0 ; 21,-1.031 21,1.031 ; 23.469,0 25.531,0 ; 24.5,-1.031 24.5,1.031 ; 26.969,0 29.031,0 ; 28,-1.031 28,1.031 ; 30.469,0 32.531,0 ; 31.5,-1.031 31.5,1.031 ; 33.969,0 36.031,0 ; 35,-1.031 35,1.031 ; 37.469,0 39.531,0 ; 38.5,-1.031 38.5,1.031 ; 40.969,0 43.031,0 ; 42,-1.031 42,1.031 ; 44.469,0 46.531,0 ; 45.5,-1.031 45.5,1.031 ; 47.969,0 50.031,0 ; 49,-1.031 49,1.031 ; 51.1,-2.1 -2.1,-2.1 ; -2.1,-2.1 -2.1,3.4 51.1,3.4 51.1,-3.6 -0.6,-3.6 -2.1,-2.1
  text "'.Designator'" at 20.453,-3.74 h1
F.CrtYd:
  lines w0.254: -2.6,-4.1 -2.6,3.9 51.6,3.9 51.6,-4.1 -2.6,-4.1

## TerminalBlock_4Ucon_1x15_P3.50mm_Vertical [mm]
pads (15):
  rrect10% 2.6x2.6 hole 1.3: 1(0,0)
  round 2.6 hole 1.3: 2(3.5,0) 3(7,0) 4(10.5,0) 5(14,0) 6(17.5,0) 7(21,0) 8(24.5,0) 9(28,0) 10(31.5,0) 11(35,0) 12(38.5,0) 13(42,0) 14(45.5,0) 15(49,0)
F.SilkS:
  region: 0.44,-5.33 -0.44,-5.33 0,-4.72
  lines w0.254: -2.37,-1.1 -1.78,-1.1 ; -1.4,1.78 -1.4,3 1.4,3 1.4,1.78 ; -0.984,1.78 cw(c0,1.6) 0.984,1.78 ; -0.3,-4.72 -2.37,-4.72 -2.37,3.82 51.37,3.82 51.37,-4.72 0.3,-4.72 ; 1.78,-1.1 2.101,-1.1 ; 2.1,1.099 2.1,3 4.9,3 4.9,1.099 ; 2.508,1.478 cw(c3.5,1.6) 4.492,1.478 ; 4.899,-1.1 5.601,-1.1 ; 5.6,1.099 5.6,3 8.4,3 8.4,1.099 ; 6.008,1.478 cw(c7,1.6) 7.992,1.478 ; 8.399,-1.1 9.101,-1.1 ; 9.1,1.099 9.1,3 11.9,3 11.9,1.099 ; 9.508,1.478 cw(c10.5,1.6) 11.492,1.478 ; 11.899,-1.1 12.601,-1.1 ; 12.6,1.099 12.6,3 15.4,3 15.4,1.099 ; 13.008,1.478 cw(c14,1.6) 14.992,1.478 ; 15.399,-1.1 16.101,-1.1 ; 16.1,1.099 16.1,3 18.9,3 18.9,1.099 ; 16.508,1.478 cw(c17.5,1.6) 18.492,1.478 ; 18.899,-1.1 19.601,-1.1 ; 19.6,1.099 19.6,3 22.4,3 22.4,1.099 ; 20.008,1.478 cw(c21,1.6) 21.992,1.478 ; 22.399,-1.1 23.101,-1.1 ; 23.1,1.099 23.1,3 25.9,3 25.9,1.099 ; 23.508,1.478 cw(c24.5,1.6) 25.492,1.478 ; 25.899,-1.1 26.601,-1.1 ; 26.6,1.099 26.6,3 29.4,3 29.4,1.099 ; 27.008,1.478 cw(c28,1.6) 28.992,1.478 ; 29.399,-1.1 30.101,-1.1 ; 30.1,1.099 30.1,3 32.9,3 32.9,1.099 ; 30.508,1.478 cw(c31.5,1.6) 32.492,1.478 ; 32.899,-1.1 33.601,-1.1 ; 33.6,1.099 33.6,3 36.4,3 36.4,1.099 ; 34.008,1.478 cw(c35,1.6) 35.992,1.478 ; 36.399,-1.1 37.101,-1.1 ; 37.1,1.099 37.1,3 39.9,3 39.9,1.099 ; 37.508,1.478 cw(c38.5,1.6) 39.492,1.478 ; 39.899,-1.1 40.601,-1.1 ; 40.6,1.099 40.6,3 43.4,3 43.4,1.099 ; 41.008,1.478 cw(c42,1.6) 42.992,1.478 ; 43.399,-1.1 44.101,-1.1 ; 44.1,1.099 44.1,3 46.9,3 46.9,1.099 ; 44.508,1.478 cw(c45.5,1.6) 46.492,1.478 ; 46.899,-1.1 47.601,-1.1 ; 47.6,1.099 47.6,3 50.4,3 50.4,1.099 ; 48.008,1.478 cw(c49,1.6) 49.992,1.478 ; 50.399,-1.1 51.37,-1.1
F.Fab:
  circle w0.254: c0,1.6 r1
  circle w0.254: c3.5,1.6 r1
  circle w0.254: c7,1.6 r1
  circle w0.254: c10.5,1.6 r1
  circle w0.254: c14,1.6 r1
  circle w0.254: c17.5,1.6 r1
  circle w0.254: c21,1.6 r1
  circle w0.254: c24.5,1.6 r1
  circle w0.254: c28,1.6 r1
  circle w0.254: c31.5,1.6 r1
  circle w0.254: c35,1.6 r1
  circle w0.254: c38.5,1.6 r1
  circle w0.254: c42,1.6 r1
  circle w0.254: c45.5,1.6 r1
  circle w0.254: c49,1.6 r1
  lines w0.254: -2.25,-1.1 51.25,-1.1 ; -2.25,-2.6 -2.25,3.7 51.25,3.7 51.25,-4.6 -0.25,-4.6 -2.25,-2.6 ; -1.4,-0.75 -1.4,3 1.4,3 1.4,-0.75 -1.4,-0.75 ; 2.1,-0.75 2.1,3 4.9,3 4.9,-0.75 2.1,-0.75 ; 5.6,-0.75 5.6,3 8.4,3 8.4,-0.75 5.6,-0.75 ; 9.1,-0.75 9.1,3 11.9,3 11.9,-0.75 9.1,-0.75 ; 12.6,-0.75 12.6,3 15.4,3 15.4,-0.75 12.6,-0.75 ; 16.101,-0.75 16.101,3 18.9,3 18.9,-0.75 16.101,-0.75 ; 19.6,-0.75 19.6,3 22.4,3 22.4,-0.75 19.6,-0.75 ; 23.1,-0.75 23.1,3 25.9,3 25.9,-0.75 23.1,-0.75 ; 26.6,-0.75 26.6,3 29.4,3 29.4,-0.75 26.6,-0.75 ; 30.1,-0.75 30.1,3 32.9,3 32.9,-0.75 30.1,-0.75 ; 33.6,-0.75 33.6,3 36.4,3 36.4,-0.75 33.6,-0.75 ; 37.1,-0.75 37.1,3 39.9,3 39.9,-0.75 37.1,-0.75 ; 40.6,-0.75 40.6,3 43.4,3 43.4,-0.75 40.6,-0.75 ; 44.1,-0.75 44.1,3 46.9,3 46.9,-0.75 44.1,-0.75 ; 47.6,-0.75 47.6,3 50.4,3 50.4,-0.75 47.6,-0.75
  text "'.Designator'" at 20.453,-4.29 h1
F.CrtYd:
  lines w0.254: -2.75,-5.11 -2.75,4.2 51.75,4.2 51.75,-5.11 -2.75,-5.11